# Altium footprint library dio.PcbLib: 50 footprints (part 3 of 4)
Each footprint in its own frame and in the unit in brackets; x right, y up, seen from the top. Pads: shape width x height; smd on the part's side, far side on the other; paste and mask are expansions set on the pad; w line width, h text height; cw(c..) or ccw(c..) is an arc to the next point about the centre after c.
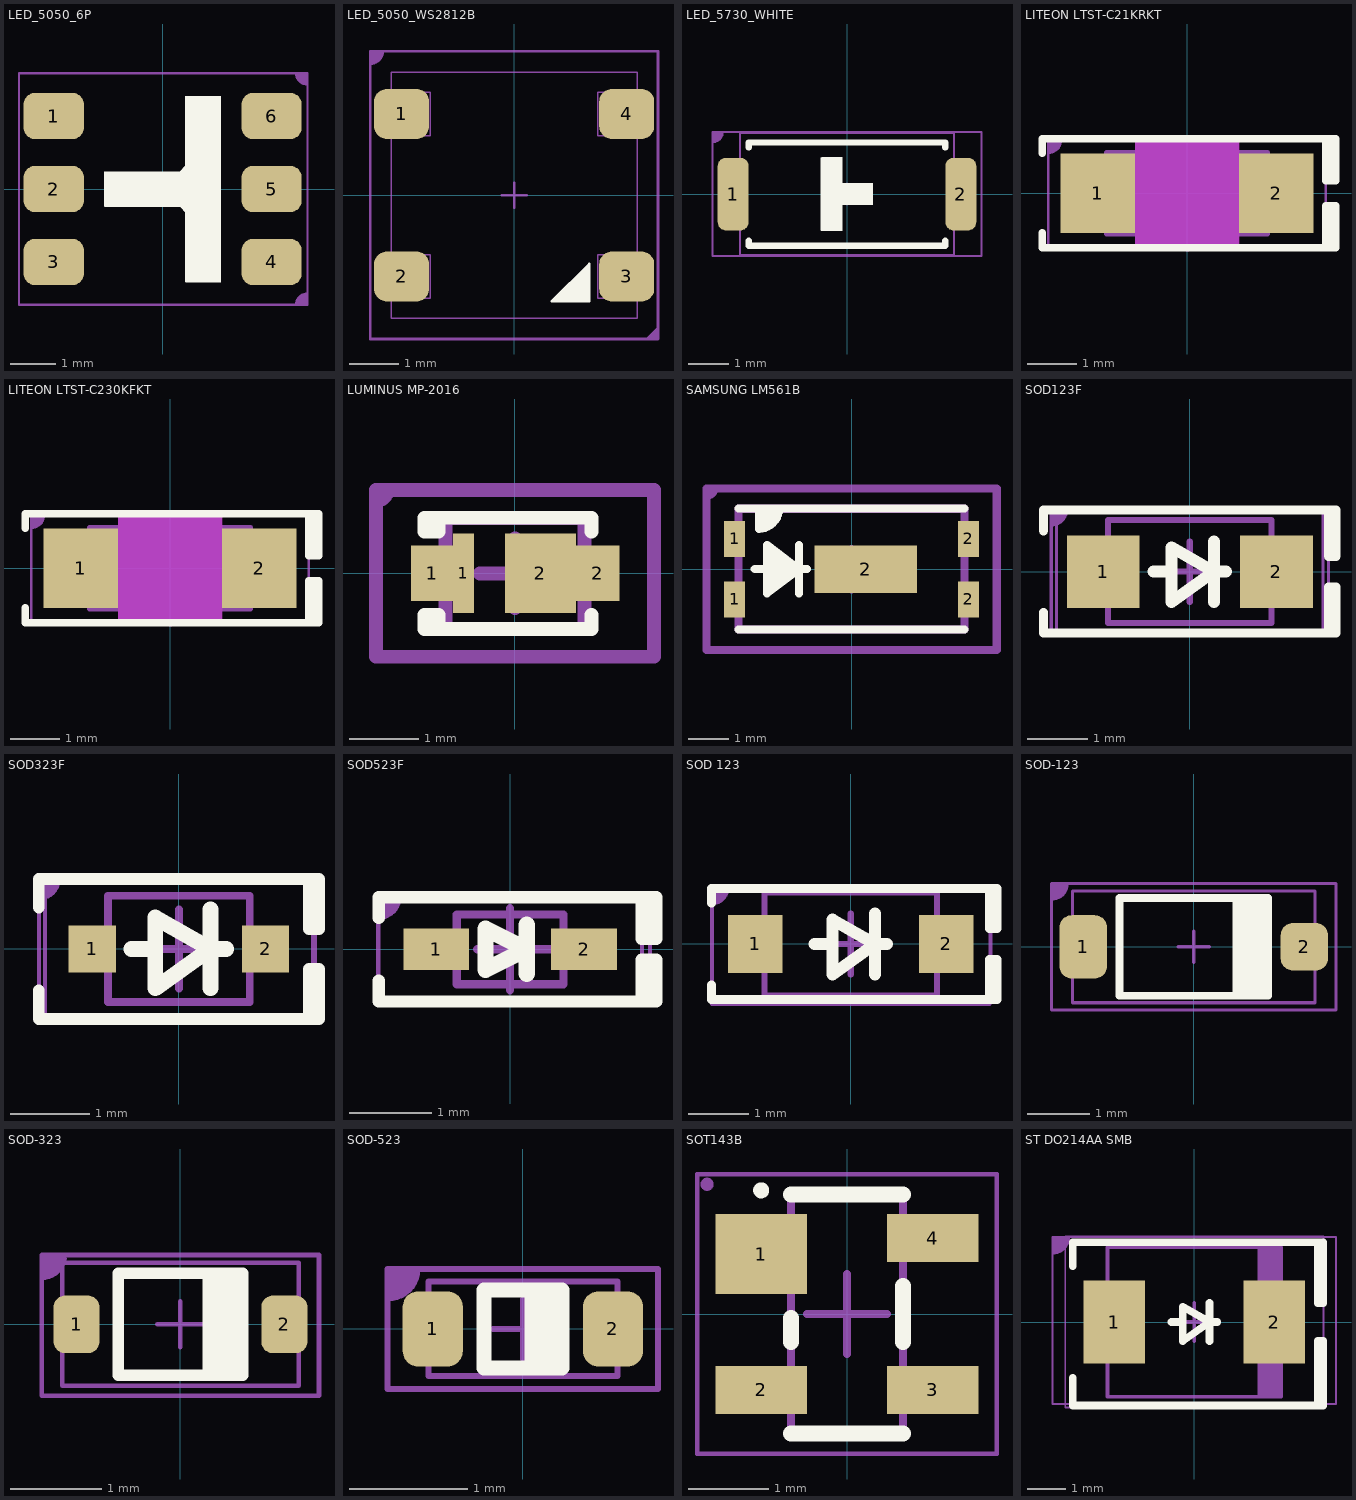
[diagram p2: the footprints below, top view; thin cyan lines are the x and y axes]

## LED_5050_6P [mil]
height 47.24
pads (6):
  rrect50% 52x40 smd: 1(-94,62.99) 2(-94,0) 3(-94,-62.99) 4(94,-62.99) 5(94,0) 6(94,62.99)
Top Overlay:
  region: 20,80 50,80 50,-80 20,-80 20,-20 15,-15 -50,-15 -50,15 15,15 20,20
  lines w1: -50,-15 -50,15 15,15 20,20 20,80 50,80 50,-80 20,-80 20,-20 15,-15 -50,-15
Mechanical 13:
  lines w2: -10,0 10,0 ; 0,-10 0,10
Top Component:
  region: 125,-100 125,-90.1 124.1,-91 120,-91 115.1,-95.9 115.1,-100
  region: 125,100 115.1,100 116,99.1 116,95 120.9,90.1 125,90.1
  lines w2: 115.1,-100 cw(c125,-100) 125,-90.1 ; 115.1,100 ccw(c125,100) 125,90.1 ; -124,-100 125,-100 125,100 -124,100 -124,-100
  text ".Designator" at -20,-13 h50
3D body "User Library-smd_led_5050.STEP": height 62.99, standoff 0, extent -104.33,-98.5 104.33,98.35

## LED_5050_WS2812B [mil]
pads (4):
  rrect50% 44x40 smd: 1(-90,65) 2(-90,-65) 3(90,-65) 4(90,65)
Top Overlay:
  region: 60,-85 30,-85 60,-55
  lines w2: 30,-85 60,-85 60,-55 30,-85
Mechanical 13:
  lines w1: -101.93,-82.45 -101.93,-47.45 -66.93,-47.45 -66.93,-82.45 -101.93,-82.45 ; -101.93,47.46 -66.93,47.46 -66.93,82.46 -101.93,82.46 -101.93,47.46 ; -98.43,-98.43 98.43,-98.43 98.43,98.43 -98.43,98.43 -98.43,-98.43 ; 66.93,-82.45 101.93,-82.45 101.93,-47.45 66.93,-47.45 66.93,-82.45 ; 66.93,47.46 66.93,82.46 101.93,82.46 101.93,47.46 66.93,47.46
  lines w2: -10,0 10,0 ; 0,-10 0,10
Top Component:
  region: 115,-106 115,-115 106,-115
  region: -115,115 -115,105.1 -114.1,106 -110,106 -105.1,110.9 -105.1,115
  lines w2: -115,105.1 ccw(c-115,115) -105.1,115 ; 106,-115 115,-106 115,-102 ; -115,-115 -115,115 115,115 115,-115 -115,-115
  text ".Designator" at -20,-13 h50
3D body "11821.STEP": height 69.02, standoff 0.13, extent -106.29,-98.42 106.3,98.43

## LED_5730_WHITE [mil]
pads (2):
  rrect50% 30x70 smd: 1(-110,0) 2(110,0)
Top Overlay:
  region: -24.5,35.5 -4.5,35.5 -4.5,10.5 25,10.5 25,-10.5 -4.5,-10.5 -4.5,-35.5 -24.5,-35.5
  lines w1: -25,-35 -4.5,-35 -4.5,-10 25,-10 25,10 -4.5,10 -4.5,35 -25,35 -25,-35
  lines w6: -95,-45 -95,-50 95,-50 95,-45 ; -95,45 -95,50 95,50 95,45
Mechanical 13:
  lines w2: -10,0 10,0 ; 0,-10 0,10 ; -103.35,-59.06 103.35,-59.06 103.35,59.06 -103.35,59.06 -103.35,-59.06
Top Component:
  region: -130,60 -130,50.1 -129.1,51 -125,51 -120.1,55.9 -120.1,60
  lines w2: -130,50.1 ccw(c-130,60) -120.1,60 ; -130,-60 130,-60 130,60 -130,60 -130,-60
  text ".Designator" at -20,-13 h50

## LITEON LTST-C21KRKT [mm] "Chip Diode, 2-Leads, Body 3.13x1.55mm, IPC Medium Density"
height 0.7
pads (2):
  rect 1.5x1.6 smd: 1(-1.8,0) 2(1.8,0)
Top Overlay:
  rectangle: 2.794,0.254 3,1.1
  rectangle: 2.794,-1.1 3,-0.254
  lines w0.15: -2.921,-0.8 -2.921,-1.1 2.794,-1.1 ; -2.921,0.8 -2.921,1.1 2.794,1.1 ; 2.794,-1.1 2.794,-0.254 3,-0.254 3,-1.1 2.794,-1.1 ; 2.794,1.1 2.794,0.254 3,0.254 3,1.1 2.794,1.1
Keep-Out Layer:
  board cut-out: -1.05,1.15 -1.05,-1.15 1.05,-1.15 1.05,1.15
Mechanical 13:
  lines w0.1: -1.625,-0.825 -1.625,0.825 1.625,0.825 1.625,-0.825 -1.625,-0.825
  lines w0.15: -0.762,0 -0.508,0 ; 0,-1.1 0,1.1 ; 0.254,0 0,0 ; 0,0 -0.508,0.381 -0.508,-0.381 0,0
Top Component:
  region: -2.794,1.067 -2.794,0.815 -2.771,0.838 -2.667,0.838 -2.543,0.963 -2.543,1.067
  lines w0.051: -2.794,0.815 ccw(c-2.794,1.067) -2.543,1.067 ; -2.794,-1.092 -2.794,1.067 2.794,1.067 2.794,-1.092 -2.794,-1.092
  text ".Designator" at -0.508,-0.33 h1.27
Component Center:
  lines w0.05: -2.794,-1.1 2.794,-1.1 2.794,1.1 -2.794,1.1 -2.794,-1.1
  lines w0.1: -0.5,0 0.5,0 ; 0,-0.5 0,0.5
Component Mask:
  rectangle: -1.05,-1.15 1.05,1.15
3D body "LED 1206 Base RED.STEP": height 0.3, standoff -0.1, extent -1.6,-0.8 1.6,0.8
3D body "LED 1206 Lens RED.STEP": height 0, standoff -0.6, extent -0.75,-0.8 0.75,0.8

## LITEON LTST-C230KFKT [mm] "Chip Diode, 2-Leads, Body 3.13x1.55mm, IPC Medium Density"
height 0.7
pads (2):
  rect 1.5x1.6 smd: 1(-1.8,0) 2(1.8,0)
Top Overlay:
  rectangle: 2.794,0.254 3,1.1
  rectangle: 2.794,-1.1 3,-0.254
  lines w0.15: -2.921,-0.8 -2.921,-1.1 2.794,-1.1 ; -2.921,0.8 -2.921,1.1 2.794,1.1 ; 2.794,-1.1 2.794,-0.254 3,-0.254 3,-1.1 2.794,-1.1 ; 2.794,1.1 2.794,0.254 3,0.254 3,1.1 2.794,1.1
Keep-Out Layer:
  board cut-out: -1.05,1.15 -1.05,-1.15 1.05,-1.15 1.05,1.15
Mechanical 13:
  lines w0.1: -1.625,-0.825 -1.625,0.825 1.625,0.825 1.625,-0.825 -1.625,-0.825
  lines w0.15: -0.762,0 -0.508,0 ; 0,-1.1 0,1.1 ; 0.254,0 0,0 ; 0,0 -0.508,0.381 -0.508,-0.381 0,0
Top Component:
  region: -2.794,1.067 -2.794,0.815 -2.771,0.838 -2.667,0.838 -2.543,0.963 -2.543,1.067
  lines w0.051: -2.794,0.815 ccw(c-2.794,1.067) -2.543,1.067 ; -2.794,-1.092 2.794,-1.092 2.794,1.067 -2.794,1.067 -2.794,-1.092
  text ".Designator" at -0.508,-0.33 h1.27
Component Center:
  lines w0.05: -2.794,-1.1 2.794,-1.1 2.794,1.1 -2.794,1.1 -2.794,-1.1
  lines w0.1: -0.5,0 0.5,0 ; 0,-0.5 0,0.5
Component Mask:
  rectangle: -1.05,-1.15 1.05,1.15
3D body "LED 1206 Base YELLOW.STEP": height 0.3, standoff -0.1, extent -1.6,-0.8 1.6,0.8
3D body "LED 0805 Lens YELLOW.STEP": height 0, standoff -0.6, extent -0.65,-0.625 0.65,0.625

## LUMINUS MP-2016 [mm]
height 0.52
pads (4):
  rect 0.6x0.8 smd: 1(-1.192,0)
  rect 0.3x1.14 smd: 1(-0.742,0)
  rect 1.02x1.14 smd: 2(0.367,0)
  rect 0.63x0.8 smd: 2(1.193,0)
Top Overlay:
  lines w0.2: 1.1,-0.6 1.1,-0.8 1,-0.8 -1.1,-0.8 ; 1.1,0.6 1.1,0.8 1,0.8 -1.1,0.8 ; -1.1,-0.8 -1.2,-0.8 -1.3,-0.8 -1.3,-0.6 -1.1,-0.6 -1.1,-0.8 ; -1.1,0.8 -1.3,0.8 -1.3,0.6 -1.1,0.6 -1.1,0.8
Mechanical 1:
  lines w0.2: -0.999,-0.799 0.999,-0.799 0.999,0.799 -0.999,0.799 -0.999,-0.799
Top Component:
  region: -2.007,1.218 -2.007,0.966 -1.984,0.989 -1.88,0.989 -1.755,1.114 -1.755,1.218
  lines w0.051: -2.007,0.966 ccw(c-2.007,1.218) -1.755,1.218 ; -2.007,-1.194 2.059,-1.194 2.059,1.218 -2.007,1.218 -2.007,-1.194
  text ".Designator" at -0.508,-0.33 h1.27
Component Center:
  lines w0.2: -0.5,0 0.5,0 ; 0,-0.5 0,0.5 ; -2,-1.2 2,-1.2 2,1.2 -2,1.2 -2,-1.2
3D body "LUMINUS MP2016.STEP": height 0.52, standoff 0, extent -0.999,-0.799 0.999,0.799

## SAMSUNG LM561B [mm]
height 0.8
pads (5):
  rect 0.52x0.9 smd: 1(-2.9,-0.75) 1(-2.9,0.75) 2(2.9,-0.75) 2(2.9,0.75)
  rect 2.54x1.18 smd: 2(0.35,0)
Top Overlay:
  region: -2.1,0.6 -2.1,-0.6 -2,-0.6 -1.4,0 -2,0.6
  region: -1.8,1.5 -2.3,1.5 -2.3,1 -2.1,1 -1.8,1.3
  lines w0.2: -2.8,-1.5 2.8,-1.5 ; -2.8,1.5 2.8,1.5 ; -2.4,0 -1.1,0 ; -2.3,1.5 -2.3,1 ; -1.8,1.5 cw(c-2.3,1.5) -2.3,1 ; -1.3,-0.6 -1.3,0.6 ; -2.3,1 -2.3,1 ; -2.1,-0.6 -1.3,0 -2.1,0.6 -2.1,-0.6
Mechanical 1:
  lines w0.2: -2.8,-1.498 2.8,-1.498 2.8,1.498 -2.8,1.498 -2.8,-1.498
Top Component:
  region: -3.581,2.005 -3.581,1.754 -3.559,1.777 -3.454,1.777 -3.33,1.901 -3.33,2.005
  lines w0.051: -3.581,1.754 ccw(c-3.581,2.005) -3.33,2.005 ; -3.581,-1.981 -3.581,2.005 3.607,2.005 3.607,-1.981 -3.581,-1.981
  text ".Designator" at -0.508,-0.33 h1.27
Component Center:
  lines w0.2: -0.5,0 0.5,0 ; 0,-0.5 0,0.5 ; -3.6,-2 3.6,-2 3.6,2 -3.6,2 -3.6,-2
3D body "Samsung LM561B LED.STEP": height 0.8, standoff 0, extent -2.8,-1.498 2.8,1.498

## SOD123F [mm] "SODFL, 2-Leads, Body 1.60x3.50mm, IPC Medium Density"
height 1
pads (2):
  rect 1.2x1.2 smd: 1(-1.43,0) 2(1.43,0)
Top Overlay:
  lines w0.15: -2.413,-0.675 -2.413,-1.016 2.286,-1.016 ; -2.413,0.675 -2.413,1.016 2.286,1.016 ; 2.286,-1.016 2.286,-0.254 2.413,-0.254 2.413,-1.016 2.286,-1.016 ; 2.286,1.016 2.413,1.016 2.413,0.254 2.286,0.254 2.286,1.016
  lines w0.2: -0.6,0 -0.3,0 ; 0.4,-0.5 0.4,0.5 ; 0.6,0 0.4,0 ; 0.4,0 -0.3,-0.5 -0.3,0.4 0.4,0
Mechanical 13:
  lines w0.1: -1.35,-0.85 1.35,-0.85 1.35,0.85 -1.35,0.85 -1.35,-0.85
Top Component:
  region: -2.286,1.016 -2.286,0.765 -2.263,0.787 -2.159,0.787 -2.035,0.912 -2.035,1.016
  lines w0.051: -2.286,0.765 ccw(c-2.286,1.016) -2.035,1.016 ; -2.286,-1.016 -2.286,1.016 2.286,1.016 2.286,-1.016 -2.286,-1.016
  text ".Designator" at -0.508,-0.33 h1.27
Component Center:
  lines w0.05: -2.2,-1 2.2,-1 2.2,1 -2.2,1 -2.2,-1
  lines w0.1: -0.5,0 0.5,0 ; 0,-0.5 0,0.5
3D body "SOD123F.STEP": height 1.1, standoff 0, extent -1.75,-0.8 1.75,0.8

## SOD323F [mm] "SODFL, 2-Leads, Body 1.25x2.50mm, IPC Medium Density"
height 0.8
pads (2):
  rect 0.6x0.6 smd: 1(-1.1,0) 2(1.1,0)
Top Overlay:
  lines w0.15: -1.778,-0.525 -1.778,-0.889 1.778,-0.889 1.778,-0.254 1.651,-0.254 1.651,-0.889 ; -1.778,0.525 -1.778,0.889 1.778,0.889 1.778,0.254 1.651,0.254 1.651,0.889
  lines w0.2: -0.6,0 -0.3,0 ; 0.4,-0.5 0.4,0.5 ; 0.6,0 0.4,0 ; 0.4,0 -0.3,0.4 -0.3,-0.5 0.4,0
Mechanical 13:
  lines w0.1: -0.9,-0.675 -0.9,0.675 0.9,0.675 0.9,-0.675 -0.9,-0.675
Top Component:
  region: -1.777,0.889 -1.777,0.638 -1.754,0.66 -1.65,0.66 -1.525,0.785 -1.525,0.889
  lines w0.051: -1.777,0.638 ccw(c-1.777,0.889) -1.525,0.889 ; -1.777,-0.889 1.727,-0.889 1.727,0.889 -1.777,0.889 -1.777,-0.889
  text ".Designator" at -0.305,-0.203 h0.76
Component Center:
  lines w0.05: -1.7,-0.85 1.7,-0.85 1.7,0.85 -1.7,0.85 -1.7,-0.85
  lines w0.1: -0.5,0 0.5,0 ; 0,-0.5 0,0.5
3D body "SOD323F.STEP": height 0.8, standoff 0, extent -1.25,-0.625 1.25,0.625

## SOD523F [mm] "SODFL, 2-Leads, Body 0.80x1.60mm, IPC Medium Density"
height 0.77
pads (2):
  rect 0.8x0.5 smd: 1(-0.9,0) 2(0.9,0)
Top Overlay:
  rectangle: 1.6,0.127 1.778,0.635
  rectangle: 1.6,-0.6 1.8,-0.127
  lines w0.15: -1.6,-0.381 -1.6,-0.635 1.651,-0.635 ; -1.6,0.381 -1.6,0.635 1.651,0.635 ; 1.6,-0.635 1.778,-0.635 1.778,-0.127 1.6,-0.127 1.6,-0.635 ; 1.6,0.127 1.6,0.635 1.778,0.635 1.778,0.127 1.6,0.127
  lines w0.2: 0.2,-0.3 0.2,0.3 ; -0.3,-0.25 -0.3,-0.1 -0.3,0.25 0.2,0 -0.3,-0.25
Mechanical 13:
  lines w0.1: -0.65,-0.425 0.65,-0.425 0.65,0.425 -0.65,0.425 -0.65,-0.425
Top Component:
  region: -1.6,0.634 -1.6,0.382 -1.577,0.405 -1.473,0.405 -1.349,0.53 -1.349,0.634
  lines w0.051: -1.6,0.382 ccw(c-1.6,0.634) -1.349,0.634 ; -1.6,-0.635 1.702,-0.635 1.702,0.634 -1.6,0.634 -1.6,-0.635
  text ".Designator" at -0.305,-0.203 h0.76
Component Center:
  lines w0.05: -1.606,-0.6 1.606,-0.6 1.606,0.6 -1.606,0.6 -1.606,-0.6
  lines w0.1: -0.4,0 0.6,0 ; 0,-0.5 0,0.5
3D body "SOD523F.STEP": height 0.65, standoff 0, extent -0.8,-0.4 0.8,0.4

## SOD 123 [mm] "SOD, 2-Leads, Body 1.55x3.70mm, IPC Medium Density"
height 1.35
pads (2):
  rect 0.9x0.95 smd: 1(-1.575,0) 2(1.575,0)
Top Overlay:
  lines w0.15: -2.3,-0.675 -2.3,-0.916 2.286,-0.916 ; -2.3,0.675 -2.3,0.916 2.286,0.916 ; 2.286,-0.916 2.286,-0.254 2.413,-0.254 2.413,-0.916 2.286,-0.916 ; 2.286,0.916 2.413,0.916 2.413,0.254 2.286,0.254 2.286,0.916
  lines w0.2: -0.6,0 -0.3,0 ; 0.4,-0.5 0.4,0.5 ; 0.6,0 0.4,0 ; 0.4,0 -0.3,-0.5 -0.3,0.4 0.4,0
Mechanical 13:
  lines w0.1: -1.425,-0.85 1.425,-0.85 1.425,0.85 -1.425,0.85 -1.425,-0.85
Top Component:
  region: -2.286,0.913 -2.286,0.662 -2.263,0.685 -2.159,0.685 -2.035,0.809 -2.035,0.913
  lines w0.051: -2.286,0.662 ccw(c-2.286,0.913) -2.035,0.913 ; -2.286,-0.965 2.311,-0.965 2.311,0.913 -2.286,0.913 -2.286,-0.965
  text ".Designator" at -0.508,-0.33 h1.27
Component Center:
  lines w0.05: -2.3,-1 2.3,-1 2.3,0.9 -2.3,0.9 -2.3,-1
  lines w0.1: -0.5,0 0.5,0 ; 0,-0.5 0,0.5
3D body "SOD-123.STEP": height 1.35, standoff 0, extent -1.864,-0.775 1.864,0.775

## SOD-123 [mil]
height 45.28
pads (2):
  rrect50% 30x40 smd: 1(-70,0)
  rrect50% 30x30 smd: 2(70,0)
Top Overlay:
  region: 47,31 47,-31 27,-31 27,31
  lines w5: 27,-31 27,31 ; -47,-31 47,-31 47,31 -47,31 -47,-31
Mechanical 13:
  lines w2: -10.01,0 9.99,0 ; -0.01,-10 -0.01,10 ; -76.78,-35.43 76.77,-35.43 76.77,35.43 -76.78,35.43 -76.78,-35.43
Top Component:
  region: -90,40 -90,30.1 -89.1,31 -85,31 -80.1,35.9 -80.1,40
  lines w2: -90,30.1 ccw(c-90,40) -80.1,40 ; -90,-40 90,-40 90,40 -90,40 -90,-40
  text ".Designator" at -16,-11 h40
3D body "User Library-SOD123-1.STEP": height 46.46, standoff 0, extent -76.78,-35.43 76.77,35.43

## SOD-323 [mil]
height 45.28
pads (2):
  rrect50% 20x25 smd: 1(-45,0) 2(45,0)
Top Overlay:
  region: 12,22 27,22 27,-22 12,-22
  lines w5: 12,-22 12,22 ; -27,-22 -27,22 27,22 27,-22 -27,-22
Mechanical 13:
  lines w2: -10,0 10,0 ; 0,-10 0,10 ; -51.18,-26.58 -51.18,26.58 51.18,26.58 51.18,-26.58 -51.18,-26.58
Top Component:
  region: -60,30 -60,20.1 -59.1,21 -55,21 -50.1,25.9 -50.1,30
  lines w2: -60,20.1 ccw(c-60,30) -50.1,30 ; -60,-31 60,-31 60,30 -60,30 -60,-31
  text ".Designator" at -12,-8 h30
3D body "SOD323.STEP": height 43.31, standoff 0, extent -51.18,-26.58 51.18,26.58

## SOD-523 [mil]
height 45.28
pads (2):
  rrect50% 20x25 smd: 1(-30,0) 2(30,0)
Top Overlay:
  region: 3,13 13,13 13,-13 3,-13
  lines w5: 3,-13 3,13 ; -13,-13 13,-13 13,13 -13,13 -13,-13
Mechanical 13:
  lines w2: -10,0 10,0 ; 0,-10 0,10 ; -31.5,-15.7 -31.5,15.7 31.5,15.7 31.5,-15.7 -31.5,-15.7
Top Component:
  region: -45,20 -45,10.1 -44.1,11 -40,11 -35.1,15.9 -35.1,20
  lines w2: -45,10.1 ccw(c-45,20) -35.1,20 ; -45,-20 45,-20 45,20 -45,20 -45,-20
  text ".Designator" at -10,-6 h25
3D body "User Library-SOD-523F.STEP": height 27.56, standoff 0, extent -31.5,-15.7 31.5,15.7

## SOT143B [mm] "SOT143, 4-Leads, Body 2.90x2.30mm, Pitch 1.90mm, IPC Medium Density"
height 1.1
pads (4):
  rect 1.15x1 smd: 1(-1.075,0.75)
  rect 1.15x0.6 smd: 2(-1.075,-0.95) 3(1.075,-0.95) 4(1.075,0.95)
Top Overlay:
  circle w0.1: c-1.075,1.55 r0.05
  lines w0.2: -0.7,-1.5 0.7,-1.5 ; -0.7,-0.35 -0.7,-0.05 ; -0.7,1.5 0.7,1.5 ; 0.7,-0.35 0.7,0.35
Mechanical 13:
  lines w0.1: -0.7,-1.5 -0.7,1.5 0.7,1.5 0.7,-1.5 -0.7,-1.5
Top Component:
  circle w0.051: c-1.753,1.626 r0.057
  region: -1.753,1.569 -1.764,1.569 -1.785,1.577 -1.801,1.593 -1.809,1.614 -1.809,1.626 -1.809,1.637 -1.801,1.658 -1.785,1.674 -1.764,1.682 -1.753,1.682 -1.741,1.682 -1.72,1.674 -1.704,1.658 -1.696,1.637 -1.696,1.626 -1.696,1.614 -1.704,1.593 -1.72,1.577 -1.741,1.569
  lines w0.051: -1.88,-1.753 1.88,-1.753 1.88,1.753 -1.88,1.753 -1.88,-1.753
  text ".Designator" at -0.305,-0.203 h0.76
Component Center:
  lines w0.05: -1.875,-1.75 1.875,-1.75 1.875,1.75 -1.875,1.75 -1.875,-1.75
  lines w0.1: -0.5,0 0.5,0 ; 0,-0.5 0,0.5
3D body "SOT143B.STEP": height 1, standoff 0, extent -1.1,-1.45 1.1,1.45

## ST DO214AA SMB [mm] "Molded Diode, 2-Leads, Body 4.31x3.62mm, IPC Medium Density"
height 2.44
pads (2):
  rect 1.62x2.18 smd: 1(-2.11,0) 2(2.11,0)
Top Overlay:
  lines w0.2: -3.2,-1.475 -3.2,-2.2 3.25,-2.2 ; -3.2,1.475 -3.2,2.1 3.4,2.1 3.4,0.5 3.25,0.5 3.25,2.1 ; -0.6,0 -0.3,0 ; 0.4,-0.5 0.4,0.5 ; 0.6,0 0.4,0 ; 0.4,0 -0.3,-0.5 -0.3,0.4 0.4,0 ; 3.25,-2.2 3.25,-0.5 3.4,-0.5 3.4,-2.2 3.25,-2.2
Mechanical 13:
  rectangle: 1.67,-1.97 2.285,1.97
  lines w0.1: -2.285,-1.97 -2.285,1.97 2.285,1.97 2.285,-1.97 -2.285,-1.97
Top Component:
  region: -3.734,2.235 -3.734,1.798 -3.612,1.798 -3.556,1.854 -3.505,1.854 -3.353,2.007 -3.353,2.057 -3.297,2.113 -3.297,2.235
  lines w0.051: -3.734,1.798 ccw(c-3.734,2.235) -3.297,2.235 ; -3.734,-2.159 -3.734,2.235 3.734,2.235 3.734,-2.159 -3.734,-2.159
  text ".Designator" at -0.508,-0.33 h1.27
Component Center:
  lines w0.05: -3.4,-2.25 -3.4,2.25 3.4,2.25 3.4,-2.25 -3.4,-2.25
  lines w0.1: -0.5,0 0.5,0 ; 0,-0.5 0,0.5
3D body "SMB.STEP": height 2.4, standoff 0, extent -2.6,-1.799 2.6,1.8